# Altium schematic symbol library LIB_TEMP_P20_FLORENT_COURNOYER_SCH.SchLib: 5 symbols
Pins are listed as number, name and electrical type; pins without a type are passive.

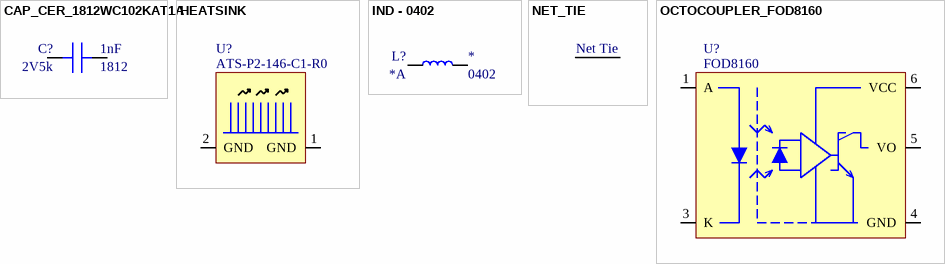
[diagram p0: symbols CAP_CER_1812WC102KAT1A to OCTOCOUPLER_FOD8160]

## CAP_CER_1812WC102KAT1A
designator C?, comment value 1nF  Package: 1812  Voltage Rating: 2V5k  (hidden comment: 1812WC102KAT1A)
CAP - CER 1000PF 2.5KV X7R - 1812; Tolerance: 10%; GRAMS Lib Spec: 2.7; Temperature: -55 to 125C
footprint Model Name (Model Description)
footprint CAP_CER_1812
pins: 1, 2

## HEATSINK
designator U?, comment ATS-P2-146-C1-R0
HEATSINK 30X30X35MM L-TAB; Value: 3.98degC/W at 100 LFM; GRAMS Lib Spec: 2.7; Note: Top Mount; HelpURL: https://www.qats.com/pushPIN/DataSheet/ATS-P2-146-C1-R0; Supplier 1: Digikey; Supplier Part Number 1: ATS-P2-146-C1-R0-ND
pins: 1 GND, 2 GND

## IND - 0402
designator L?, comment Current: *A  Package: 0402  (hidden comment: Part Number)
IND - 0402; Voltage: *; value: *
footprint IND_0402 (Ferrite - 0402)
pins: 0 1, 1 2

## NET_TIE
designator NT?, comment Net Tie  (net tie, no BOM)
Net Tie for DDR3 lenght matching; GRAMS Lib Spec: 2.7
footprint Net Tie (Net Tie for DDR3 lenght matching)
pins: 1, 2

## OCTOCOUPLER_FOD8160
designator U?, comment FOD8160
XXX - Description - Package; GRAMS Lib Spec: 2.7; HelpURL: https://www.onsemi.com/pdf/datasheet/fod8160-d.pdf
pins: 1 A, 3 K, 4 GND, 5 VO, 6 VCC